# Altium footprint library PCB1.PcbLib: 15 footprints
Each footprint in its own frame and in the unit in brackets; x right, y up, seen from the top. Pads: shape width x height; smd on the part's side, far side on the other; paste and mask are expansions set on the pad; w line width, h text height; cw(c..) or ccw(c..) is an arc to the next point about the centre after c.
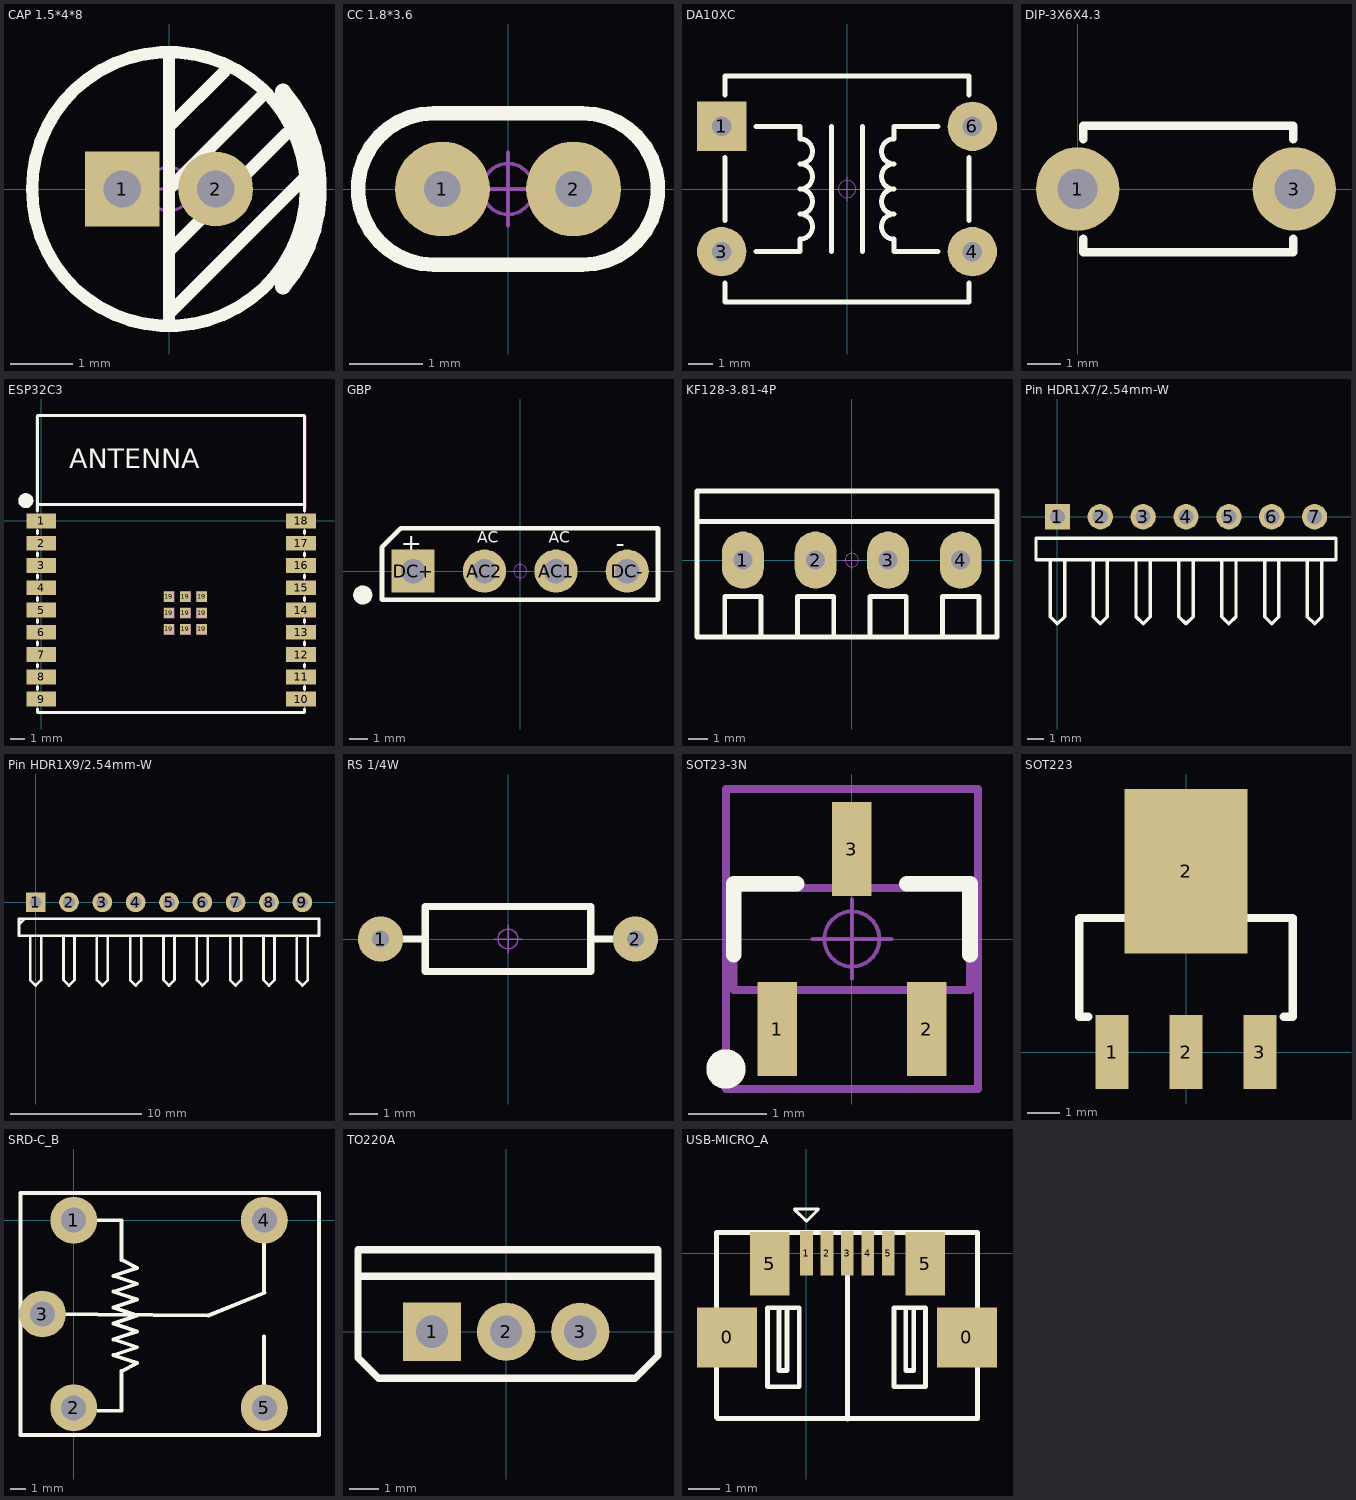
[diagram p0: the footprints below, top view; thin cyan lines are the x and y axes]

## CAP 1.5*4*8 [mm] "脚距1.5mm直径4mm高度8mm"
height 1.6
pads (2):
  rect 1.2x1.2 hole 0.6: 1(-0.75,0)
  round 1.2 hole 0.6: 2(0.75,0)
Top Overlay:
  circle w0.2: c0,0 r2.2
  lines w0.2: 0,-2.159 0,-2 ; 0,-1 1.897,0.897 ; 0,0 1.524,1.524 ; 0,1 0.897,1.897 ; 0,2.159 0,-2 ; 2.207,0.206 0,-2
  lines w0.254: 1.83,-1.568 ccw(c0,0) 1.83,1.568
Mechanical 15:
  circle w0.05: c0,0 r0.35
  lines w0.05: -0.5,0 0.5,0 ; 0,-0.5 0,0.5
3D body "CAP 1.5X4X8.STEP": height 8.04, standoff -3.46, extent -2,-1.999 2.02,1.999

## CC 1.8*3.6 [mm] "脚距1.8mm直径3.6mm"
height 1.6
pads (2):
  round 1.3 hole 0.5: 1(-0.9,0) 2(0.9,0)
Top Overlay:
  lines w0.2: -1.016,-1.041 cw(c-1.016,0) -1.016,1.041 1.016,1.041 cw(c1.016,0) 1.016,-1.041 -1.016,-1.041
Mechanical 15:
  circle w0.05: c0,0 r0.35
  lines w0.05: -0.5,0 0.5,0 ; 0,-0.5 0,0.5
3D body "CC 1.8X3.6.STEP": height 3.6, standoff -3.5, extent -1.8,-0.798 1.8,0.796

## DA10XC [mm] "9mm*9.52mm*6.35mm(长*宽*高)"
height 1.6
pads (4):
  rect 2x2 hole 0.8 unplated: 1(-5.08,2.54)
  round 2 hole 0.8 unplated: 3(-5.08,-2.54) 4(5.08,-2.54) 6(5.08,2.54)
Top Overlay:
  lines w0.203: -4.953,-3.81 -4.953,-4.572 4.953,-4.572 4.953,-3.81 ; -4.953,-1.27 -4.953,1.27 ; -4.953,3.81 -4.953,4.572 4.953,4.572 4.953,3.81 ; -3.683,-2.54 -1.905,-2.54 -1.905,-2.032 ccw(c-1.905,-1.524) -1.905,-1.016 ccw(c-1.905,-0.508) -1.905,0 ccw(c-1.905,0.508) -1.905,1.016 ccw(c-1.905,1.524) -1.905,2.032 -1.905,2.54 -3.683,2.54 ; -0.635,-2.54 -0.635,2.54 ; 0.635,-2.54 0.635,2.54 ; 3.683,-2.54 1.905,-2.54 1.905,-2.032 cw(c1.905,-1.524) 1.905,-1.016 cw(c1.905,-0.508) 1.905,0 cw(c1.905,0.508) 1.905,1.016 cw(c1.905,1.524) 1.905,2.032 1.905,2.54 3.683,2.54 ; 4.953,-1.27 4.953,1.27
Mechanical 15:
  circle w0.05: c0,0 r0.35
  lines w0.05: -0.5,0 0.5,0 ; 0,-0.5 0,0.5
3D body "DA10XC.STEP": height 6.4, standoff -3.45, extent -5.205,-4.5 5.205,4.5

## DIP-3X6X4.3 [mm]
height 1.6
pads (2):
  round 2.5 hole 1.2: 1(0,0) 3(6.5,0)
Top Overlay:
  lines w0.254: 0.162,-1.499 0.162,-1.9 6.462,-1.9 6.462,-1.499 ; 0.162,1.499 0.162,1.9 6.462,1.9 6.462,1.499
3D body "DIP-3X6X4.3.STEP": height 4.31, standoff -3.49, extent -0.635,-1.75 7.194,1.75

## ESP32C3 [mm]
height 1.6
pads (27):
  rect 2x1 smd paste+0 mask+0.05: 1(0,0) 2(0,-1.5) 3(0,-3) 4(0,-4.5) 5(0,-6) 6(0,-7.5) 7(0,-9) 8(0,-10.5) 9(0,-12) 10(17.5,-12) 11(17.5,-10.5) 12(17.5,-9) 13(17.5,-7.5) 14(17.5,-6) 15(17.5,-4.5) 16(17.5,-3) 17(17.5,-1.5) 18(17.5,0)
  rect 0.7x0.7 smd paste+0 mask+0.05: 19(8.61,-7.3) 19(8.61,-6.2) 19(8.61,-5.1) 19(9.71,-7.3) 19(9.71,-6.2) 19(9.71,-5.1) 19(10.81,-7.3) 19(10.81,-6.2) 19(10.81,-5.1)
Top Overlay:
  circle w0.5: c-1.029,1.366 r0.25
  lines w0.2: -0.25,-12.654 -0.25,-12.9 17.75,-12.9 17.75,-12.654 ; -0.25,-11.346 -0.25,-11.154 ; -0.25,-9.846 -0.25,-9.654 ; -0.25,-8.346 -0.25,-8.154 ; -0.25,-6.846 -0.25,-6.654 ; -0.25,-5.346 -0.25,-5.154 ; -0.25,-3.846 -0.25,-3.654 ; -0.25,-2.346 -0.25,-2.154 ; -0.25,-0.846 -0.25,-0.654 ; -0.25,0.654 -0.25,7.1 17.75,7.1 17.75,0.654 ; -0.25,1.1 17.75,1.1 ; 17.75,-11.346 17.75,-11.154 ; 17.75,-9.846 17.75,-9.654 ; 17.75,-8.346 17.75,-8.154 ; 17.75,-6.846 17.75,-6.654 ; 17.75,-5.346 17.75,-5.154 ; 17.75,-3.846 17.75,-3.654 ; 17.75,-2.346 17.75,-2.154 ; 17.75,-0.846 17.75,-0.654
  text "ANTENNA" at 1.906,3.551 h1.32
Mechanical 6:
  circle w0.5: c-1.029,1.366 r0.25
  region: -0.35,0.65 -0.35,7.05 -0.2,7.2 17.65,7.2 17.85,7 17.85,0.85 17.65,0.85 17.65,7 -0.15,7 -0.15,0.7 -0.15,0.65
Mechanical 15:
  region: 8.26,-4.75 8.96,-4.75 8.96,-5.45 8.26,-5.45
  region: 8.26,-5.85 8.96,-5.85 8.96,-6.55 8.26,-6.55
  region: 8.26,-6.95 8.96,-6.95 8.96,-7.65 8.26,-7.65
  region: 9.36,-4.75 10.06,-4.75 10.06,-5.45 9.36,-5.45
  region: 9.36,-5.85 10.06,-5.85 10.06,-6.55 9.36,-6.55
  region: 9.36,-6.95 10.06,-6.95 10.06,-7.65 9.36,-7.65
  region: 10.46,-6.95 11.16,-6.95 11.16,-7.65 10.46,-7.65
  region: 10.46,-5.85 11.16,-5.85 11.16,-6.55 10.46,-6.55
  region: 10.46,-4.75 11.16,-4.75 11.16,-5.45 10.46,-5.45
  region: -0.25,0.425 0.65,0.425 0.65,-0.425 -0.25,-0.425
  region: -0.25,-1.075 0.65,-1.075 0.65,-1.925 -0.25,-1.925
  region: -0.25,-2.575 0.65,-2.575 0.65,-3.425 -0.25,-3.425
  region: -0.25,-4.075 0.65,-4.075 0.65,-4.925 -0.25,-4.925
  region: -0.25,-5.575 0.65,-5.575 0.65,-6.425 -0.25,-6.425
  region: -0.25,-7.075 0.65,-7.075 0.65,-7.925 -0.25,-7.925
  region: -0.25,-8.575 0.65,-8.575 0.65,-9.425 -0.25,-9.425
  region: -0.25,-10.075 0.65,-10.075 0.65,-10.925 -0.25,-10.925
  region: -0.25,-11.575 0.65,-11.575 0.65,-12.425 -0.25,-12.425
  region: 16.85,-11.575 17.75,-11.575 17.75,-12.425 16.85,-12.425
  region: 16.85,-10.075 17.75,-10.075 17.75,-10.925 16.85,-10.925
  region: 16.85,-8.575 17.75,-8.575 17.75,-9.425 16.85,-9.425
  region: 16.85,-7.075 17.75,-7.075 17.75,-7.925 16.85,-7.925
  region: 16.85,-5.575 17.75,-5.575 17.75,-6.425 16.85,-6.425
  region: 16.85,-4.075 17.75,-4.075 17.75,-4.925 16.85,-4.925
  region: 16.85,-2.575 17.75,-2.575 17.75,-3.425 16.85,-3.425
  region: 16.85,-1.075 17.75,-1.075 17.75,-1.925 16.85,-1.925
  region: 16.85,0.425 17.75,0.425 17.75,-0.425 16.85,-0.425
  region: -0.19,7.1 -0.19,7.125 -0.225,7.16 -0.275,7.16 -0.31,7.125 -0.31,7.1 -0.31,7.075 -0.275,7.04 -0.225,7.04 -0.19,7.075
  lines w0.051: -0.25,-12.9 17.75,-12.9 17.75,7.1 -0.25,7.1 -0.25,-12.9
3D body "ESP32-C3-WROOM-02_20210906_0.STEP": height 3.3, standoff 0, extent -0.254,-12.954 17.746,7.046

## GBP [mm] "14.2*2.9*10.5mm(长宽高)"
height 1.6
pads (4):
  round 2.3 hole 1.3: AC1(1.91,0) AC2(-1.9,0) DC-(5.7,0)
  rect 2.3x2.3 hole 1.3: DC+(-5.7,0)
Top Overlay:
  circle w0.508: c-8.382,-1.27 r0.254
  lines w0.254: -7.36,-1.524 7.34,-1.524 7.34,2.286 -6.35,2.286 -7.36,1.276 -7.36,-1.524
  text "AC" at -2.286,1.524 h0.6
  text "-" at 5.08,1.016 h1
  text "+" at -6.35,1.016 h1
  text "AC" at 1.524,1.524 h0.6
Mechanical 15:
  circle w0.05: c0,0 r0.35
  lines w0.05: -0.5,0 0.5,0 ; 0,-0.5 0,0.5
3D body "GBP.STEP": height 12.8, standoff -3.6, extent -7.1,-1 7.1,1.9

## KF128-3.81-4P [mm] "螺钉式接线端子，脚距3.81mm"
height 1.6
pads (4):
  oval 2.2x3 hole 1: 1(-5.715,0) 2(-1.905,0) 3(1.905,0) 4(5.715,0)
Top Overlay:
  lines w0.254: -8.128,2.032 7.62,2.032 ; -6.667,-4.039 -6.667,-1.905 -4.763,-1.905 -4.763,-4.039 ; -2.857,-4.039 -2.857,-1.905 -0.953,-1.905 -0.953,-4.039 ; 0.953,-4.039 0.953,-1.905 2.857,-1.905 2.857,-4.039 ; 4.763,-4.039 4.763,-1.905 6.667,-1.905 6.667,-4.039 ; -8.128,-4.039 -8.128,3.632 7.62,3.632 7.62,-4.039 -8.128,-4.039
Mechanical 15:
  circle w0.05: c0,0 r0.35
  lines w0.05: -0.5,0 0.5,0 ; 0,-0.5 0,0.5
3D body "KF128.STEP": height 8.55, standoff -3.95, extent -0.5,-3.9 3.81,3.5
3D body "KF128.STEP": height 8.55, standoff -3.95, extent 3.31,-3.9 7.62,3.5
3D body "KF128.STEP": height 8.55, standoff -3.95, extent -4.31,-3.9 0,3.5
3D body "KF128.STEP": height 8.55, standoff -3.95, extent -8.12,-3.9 -3.81,3.5

## Pin HDR1X7/2.54mm-W [mm] "Connector; Header; 7 Position; Right Angle"
height 1.6
pads (7):
  rect 1.5x1.5 hole 0.9: 1(0,0)
  round 1.5 hole 0.9: 2(2.54,0) 3(5.08,0) 4(7.62,0) 5(10.16,0) 6(12.7,0) 7(15.24,0)
Top Overlay:
  lines w0.2: -0.423,-2.54 -0.423,-5.927 0,-6.35 0.423,-5.927 0.423,-2.54 ; 2.117,-2.54 2.117,-5.927 2.54,-6.35 2.963,-5.927 2.963,-2.54 ; 4.657,-2.54 4.657,-5.927 5.08,-6.35 5.503,-5.927 5.503,-2.54 ; 7.197,-2.54 7.197,-5.927 7.62,-6.35 8.043,-5.927 8.043,-2.54 ; 9.737,-2.54 9.737,-5.927 10.16,-6.35 10.583,-5.927 10.583,-2.54 ; 12.277,-2.54 12.277,-5.927 12.7,-6.35 13.123,-5.927 13.123,-2.54 ; 14.817,-2.54 14.817,-5.927 15.24,-6.35 15.663,-5.927 15.663,-2.54 ; -1.27,-2.54 -1.27,-1.27 16.51,-1.27 16.51,-2.54 -1.27,-2.54
3D body: height 2.54, standoff -1, extent -1.27,-9.969 16.51,0.381

## Pin HDR1X9/2.54mm-W [mm] "Connector; Header; 9 Position; Right Angle"
height 1.6
pads (9):
  rect 1.5x1.5 hole 0.9: 1(0,0)
  round 1.5 hole 0.9: 2(2.54,0) 3(5.08,0) 4(7.62,0) 5(10.16,0) 6(12.7,0) 7(15.24,0) 8(17.78,0) 9(20.32,0)
Top Overlay:
  lines w0.2: -1.27,-1.693 -0.847,-1.27 ; -0.423,-2.54 -0.423,-5.927 0,-6.35 0.423,-5.927 0.423,-2.54 ; 2.117,-2.54 2.117,-5.927 2.54,-6.35 2.963,-5.927 2.963,-2.54 ; 4.657,-2.54 4.657,-5.927 5.08,-6.35 5.503,-5.927 5.503,-2.54 ; 7.197,-2.54 7.197,-5.927 7.62,-6.35 8.043,-5.927 8.043,-2.54 ; 9.737,-2.54 9.737,-5.927 10.16,-6.35 10.583,-5.927 10.583,-2.54 ; 12.277,-2.54 12.277,-5.927 12.7,-6.35 13.123,-5.927 13.123,-2.54 ; 14.817,-2.54 14.817,-5.927 15.24,-6.35 15.663,-5.927 15.663,-2.54 ; 17.357,-2.54 17.357,-5.927 17.78,-6.35 18.203,-5.927 18.203,-2.54 ; 19.897,-2.54 19.897,-5.927 20.32,-6.35 20.743,-5.927 20.743,-2.54 ; -1.27,-2.54 -1.27,-1.27 21.59,-1.27 21.59,-2.54 -1.27,-2.54
3D body: height 2.54, standoff -1, extent -1.27,-9.969 21.59,0.381

## RS 1/4W [mm] "直插色环电阻，脚距9mm，直径2.3mm"
height 1.6
pads (2):
  round 1.6 hole 0.6: 1(-4.5,0) 2(4.5,0)
Top Overlay:
  lines w0.254: -3.683,0 -3.048,0 ; 3.048,0 3.683,0 ; -2.921,-1.143 2.921,-1.143 2.921,1.143 -2.921,1.143 -2.921,-1.143
Mechanical 15:
  circle w0.05: c0,0 r0.35
  lines w0.05: -0.5,0 0.5,0 ; 0,-0.5 0,0.5
3D body "RS 1-4W.STEP": height 2.32, standoff -3.49, extent -4.725,-1.16 4.725,1.16

## SOT23-3N [mm] "3x1.3x1mm(长宽高)"
height 1.1
pads (3):
  rect 0.5x1.2 smd: 1(-0.95,-1.143) 2(0.95,-1.143) 3(0,1.143)
Top Overlay:
  circle w0.25: c-1.6,-1.651 r0.125
  lines w0.2: -1.501,-0.2 -1.501,0.7 -0.701,0.7 ; 0.699,0.7 1.499,0.7 1.499,-0.2
Mechanical 13:
  lines w0.1: -1.5,-0.65 -1.5,0.65 1.5,0.65 1.5,-0.65 -1.5,-0.65
Mechanical 15:
  circle w0.05: c0,0 r0.35
  lines w0.05: -0.5,0 0.5,0 ; 0,-0.5 0,0.5
  lines w0.1: -1.6,-1.905 -1.6,1.905 1.6,1.905 1.6,-1.905 -1.6,-1.905
3D body "SOT23-3.STEP": height 1.05, standoff 0, extent -1.5,-1.2 1.5,1.2

## SOT223 [mil]
height 62.99
pads (4):
  rect 40x90 smd: 1(-90,0) 2(0,0) 3(90,0)
  rect 150x200 smd: 2(0,220)
Top Overlay:
  lines w10: -119,43 -130,43 -130,163 130,163 130,43 119,43
3D body "SOT223.STEP": height 64.96, standoff -0.74, extent -129.9,-30.12 126,246.12

## SRD-C_B [mm] "单刀双投"
height 1.6
pads (5):
  round 3 hole 1.6: 1(0,0) 2(0,-12) 3(-2,-6) 4(12.2,0) 5(12.2,-12)
Top Overlay:
  lines w0.254: -2,-6 8.636,-6.096 12.22,-4.64 ; 1.524,-12.192 3.048,-12.192 3.048,-10.668 3.048,-9.652 4.064,-9.144 2.54,-8.636 4.064,-8.128 2.54,-7.62 4.064,-7.112 2.54,-6.604 4.064,-6.096 2.54,-5.588 4.064,-5.08 2.54,-4.572 4.064,-4.064 2.54,-3.556 4.064,-3.048 3.048,-2.54 3.048,0 1.524,0 ; 12.192,-10.668 12.192,-8.636 ; 12.192,-9.144 12.192,-7.429 ; 12.192,-4.572 12.192,-1.524 ; -3.4,-13.75 -3.4,1.75 15.7,1.75 15.7,-13.75 -3.4,-13.75
3D body "SRD-C_B-.STEP": height 15.6, standoff -3.4, extent -3.327,-13.849 15.773,1.651

## TO220A [mm] "220，3脚晶体管"
height 1.6
pads (3):
  rect 2x2 hole 1.1: 1(-2.54,0)
  round 2 hole 1.1: 2(0,0) 3(2.54,0)
Top Overlay:
  lines w0.254: -4.928,1.905 5.131,1.905 ; -5.08,-0.889 -4.369,-1.6 4.42,-1.6 5.207,-0.813 5.207,2.819 -5.08,2.819 -5.08,-0.889
3D body "4.STEP": height 18.5, standoff -4, extent -5.08,-1.453 5.22,2.977

## USB-MICRO_A [mm]
height 1.6
pads (9):
  rect 1.9x1.9 smd: 0(-2.515,-2.667) 0(5.08,-2.667)
  rect 0.4x1.4 smd: 1(0,0) 2(0.648,0) 3(1.295,0) 4(1.943,0) 5(2.591,0)
  rect 1.25x2 smd: 5(-1.168,-0.33) 5(3.759,-0.33)
Top Overlay:
  lines w0.1: -0.381,1.397 0.381,1.397 0,1.016 -0.381,1.397
  lines w0.152: -2.845,-5.207 -2.845,0.66 ; -2.819,-5.232 5.385,-5.232 ; -2.794,0.66 5.385,0.66 ; -0.869,-1.728 -0.869,-3.713 -0.666,-3.713 -0.615,-3.713 -0.615,-1.728 ; 1.296,-5.244 1.296,0.635 ; 3.144,-1.728 3.144,-3.713 3.398,-3.713 3.398,-1.728 ; 5.41,-5.232 5.41,0.66 ; -1.23,-4.227 -0.23,-4.227 -0.23,-1.728 -1.23,-1.728 -1.23,-4.227 ; 2.77,-4.227 2.77,-1.728 3.77,-1.728 3.77,-4.227 2.77,-4.227
3D body "USB-MICRO_A.STEP": height 2.69, standoff -0.24, extent -2.712,-5.08 5.252,0.342